# Altium schematic symbol library IC_Texas_Instruments_LP38798SDE-ADJ-NOPB_eec.SchLib: 1 symbol
Pins are listed as number, name and electrical type; pins without a type are passive.

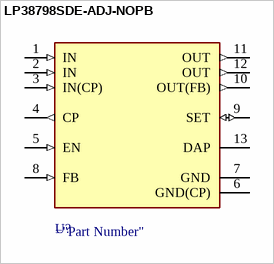
[diagram p0: symbol LP38798SDE-ADJ-NOPB]

## LP38798SDE-ADJ-NOPB
designator U?  (value not drawn)
pins: 1 IN (in), 2 IN (in), 3 IN(CP) (in), 4 CP (out), 5 EN (in), 6 GND(CP) (power), 7 GND (power), 8 FB (in), 9 SET (io), 10 OUT(FB) (out), 11 OUT (out), 12 OUT (out), 13 DAP (power)